# EAGLE library part SN74LVC1G175 (library SKAARHOJ)
MCP73831/2 Miniature Single-Cell, Fully Integrated Li-Ion, Li-Polymer Charge Management Controllers. Nice and small simple lipoly charge controller, with adjustable current and status output (LED) http://www.ladyada.net/library/pcb/eaglelibrary.html
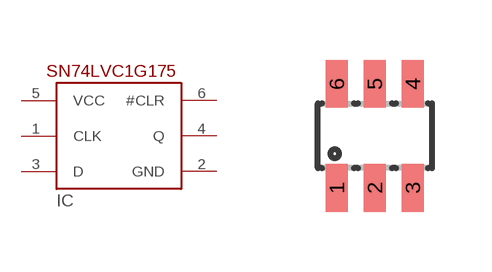
[diagram p78: symbol with the pads of SOT23-6L; footprint SOT23-6L]

Designator prefix IC

## SN74LVC1G175  [SOT23-6L]
1  CLK  in
2  GND  pwr
3  D  in
4  Q  out
5  VCC  pwr
6  #CLR  in

## Footprint SOT23-6L (pad centres in mm)
Small Outline Transistor
smd 0.55 x 1.2: 1 -0.95,-1.3; 2 0,-1.3; 3 0.95,-1.3; 4 0.95,1.3; 5 0,1.3; 6 -0.95,1.3